# Altium schematic symbol library Nupakachi.SchLib: 6 symbols
Pins are listed as number, name and electrical type; pins without a type are passive.

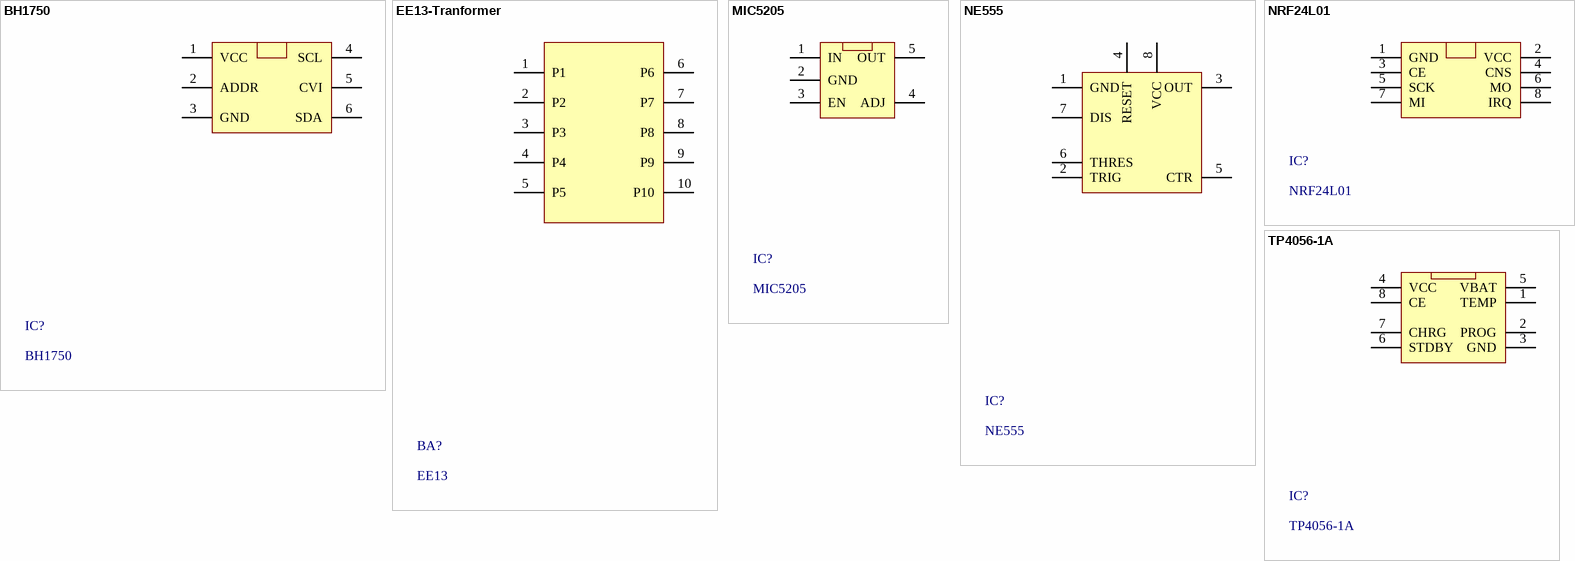
[diagram p0: symbols BH1750 to TP4056-1A]

## BH1750
designator IC?
footprint BH1750 (BH1750 3x2,20 pin, connecter)
pins: 1 VCC (power), 2 ADDR, 3 GND, 4 SCL, 5 CVI, 6 SDA

## EE13-Tranformer
designator BA?, comment EE13
footprint EE1BA (DIP10)
pins: 1 P1, 2 P2, 3 P3, 4 P4, 5 P5, 6 P6, 7 P7, 8 P8, 9 P9, 10 P10

## MIC5205
designator IC?
footprint MIC5205 (MIC5205, 5-Leads, Body 2.91x2.45mm, Pitch 0.95mm, IPC Medium Density)
pins: 1 IN (power), 2 GND (power), 3 EN, 4 ADJ (power), 5 OUT (power)

## NE555
designator IC?
footprint DIP8/W0.3K (8 PIN, W 400mil , L 450mil, Pin to pin 100mil For Switch)
pins: 1 GND (power), 2 TRIG, 3 OUT (power), 4 RESET (power), 5 CTR, 6 THRES, 7 DIS, 8 VCC

## NRF24L01
designator IC?
footprint NRF24L01 (NRF24L01 4x2 pin connector)
pins: 1 GND (power), 2 VCC (power), 3 CE, 4 CNS, 5 SCK, 6 MO, 7 MI, 8 IRQ

## TP4056-1A
designator IC?
footprint TP4056-1A (TP4056-1A, 8-Leads, Body 4.90x3.90mm, Pitch 1.27mm, IPC Medium Density)
pins: 1 TEMP, 2 PROG, 3 GND (power), 4 VCC (power), 5 VBAT (power), 6 STDBY, 7 CHRG, 8 CE